# Altium footprint library planar_inductor.PcbLib: 1 footprints
Each footprint in its own frame and in the unit in brackets; x right, y up, seen from the top. Pads: shape width x height; smd on the part's side, far side on the other; paste and mask are expansions set on the pad; w line width, h text height; cw(c..) or ccw(c..) is an arc to the next point about the centre after c.
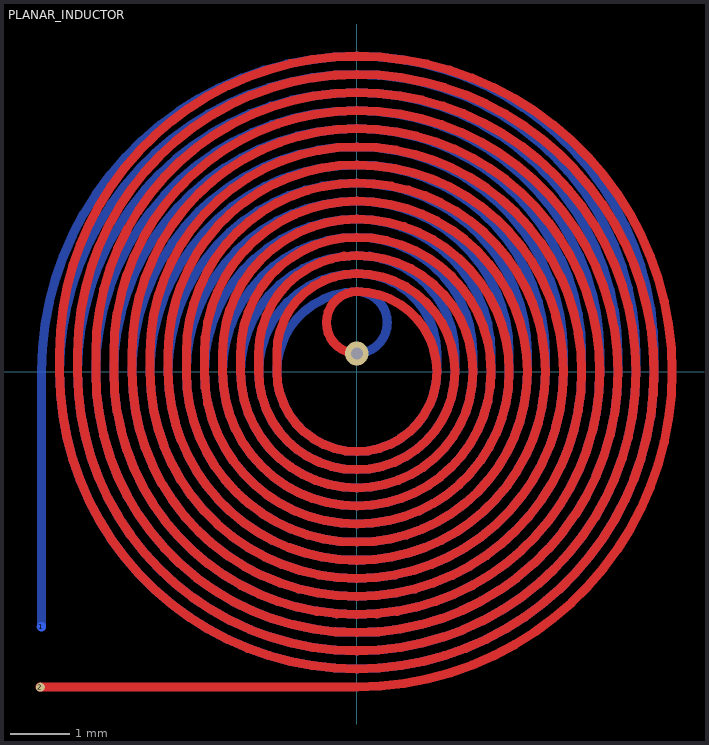
[diagram p0: the footprint, top view; thin cyan lines are the x and y axes]

## PLANAR_INDUCTOR [mil]
pads (2):
  round 6 smd far side paste+0 mask+4: 1(-209,-169)
  round 6 smd paste+0 mask+4: 2(-209.74,-209.15)
via 0,12 diameter 15.75 hole 7.87
Top Layer:
  lines w6: -210,-209 0,-209 ccw(c0,0) 209,0 ccw(c0,0) 0,209 ccw(c0,12) -197,12 -197,0 ccw(c0,0) 0,-197 ccw(c0,0) 197,0 ccw(c0,0) 0,197 ccw(c0,12) -185,12 -185,0 ccw(c0,0) 0,-185 ccw(c0,0) 185,0 ccw(c0,0) 0,185 ccw(c0,12) -173,12 -173,0 ccw(c0,0) 0,-173 ccw(c0,0) 173,0 ccw(c0,0) 0,173 ccw(c0,12) -161,12 -161,0 ccw(c0,0) 0,-161 ccw(c0,0) 161,0 ccw(c0,0) 0,161 ccw(c0,12) -149,12 -149,0 ccw(c0,0) 0,-149 ccw(c0,0) 149,0 ccw(c0,0) 0,149 ccw(c0,12) -137,12 -137,0 ccw(c0,0) 0,-137 ccw(c0,0) 137,0 ccw(c0,0) 0,137 ccw(c0,12) -125,12 -125,0 ccw(c0,0) 0,-125 ccw(c0,0) 125,0 ccw(c0,0) 0,125 ccw(c0,12) -113,12 -113,0 ccw(c0,0) 0,-113 ccw(c0,0) 113,0 ccw(c0,0) 0,113 ccw(c0,12) -101,12 -101,0 ccw(c0,0) 0,-101 ccw(c0,0) 101,0 ccw(c0,0) 0,101 ccw(c0,12) -89,12 -89,0 ccw(c0,0) 0,-89 ccw(c0,0) 89,0 ccw(c0,0) 0,89 ccw(c0,12) -77,12 -77,0 ccw(c0,0) 0,-77 ccw(c0,0) 77,0 ccw(c0,0) 0,77 ccw(c0,12) -65,12 -65,0 ccw(c0,0) 0,-65 ccw(c0,0) 65,0 ccw(c0,0) 0,65 ccw(c0,12) -53,12 -53,0 ccw(c0,0) 0,-53 ccw(c0,0) 53,0 ccw(c0,0) 0,53 ccw(c0.35,32.5) 0,12
Bottom Layer:
  lines w6: -209,-169 -209,0 cw(c0,0) 0,209 cw(c0,12) 197,12 197,0 cw(c0,0) 0,-197 cw(c0,0) -197,0 cw(c0,0) 0,197 cw(c0,12) 185,12 185,0 cw(c0,0) 0,-185 cw(c0,0) -185,0 cw(c0,0) 0,185 cw(c0,12) 173,12 173,0 cw(c0,0) 0,-173 cw(c0,0) -173,0 cw(c0,0) 0,173 cw(c0,12) 161,12 161,0 cw(c0,0) 0,-161 cw(c0,0) -161,0 cw(c0,0) 0,161 cw(c0,12) 149,12 149,0 cw(c0,0) 0,-149 cw(c0,0) -149,0 cw(c0,0) 0,149 cw(c0,12) 137,12 137,0 cw(c0,0) 0,-137 cw(c0,0) -137,0 cw(c0,0) 0,137 cw(c0,12) 125,12 125,0 cw(c0,0) 0,-125 cw(c0,0) -125,0 cw(c0,0) 0,125 cw(c0,12) 113,12 113,0 cw(c0,0) 0,-113 cw(c0,0) -113,0 cw(c0,0) 0,113 cw(c0,12) 101,12 101,0 cw(c0,0) 0,-101 cw(c0,0) -101,0 cw(c0,0) 0,101 cw(c0,12) 89,12 89,0 cw(c0,0) 0,-89 cw(c0,0) -89,0 cw(c0,0) 0,89 cw(c0,12) 77,12 77,0 cw(c0,0) 0,-77 cw(c0,0) -77,0 cw(c0,0) 0,77 cw(c0,12) 65,12 65,0 cw(c0,0) 0,-65 cw(c0,0) -65,0 cw(c0,0) 0,65 cw(c0,12) 53,12 53,0 cw(c0,0) 0,-53 cw(c0,0) -53,0 cw(c0,0) 0,53 cw(c-0.35,32.5) 0,12